# EAGLE library part AR1021-RESISTIVE_TOUCH_CONTROLLER (library Custom)
AR1021 - Resistive Touch Controller
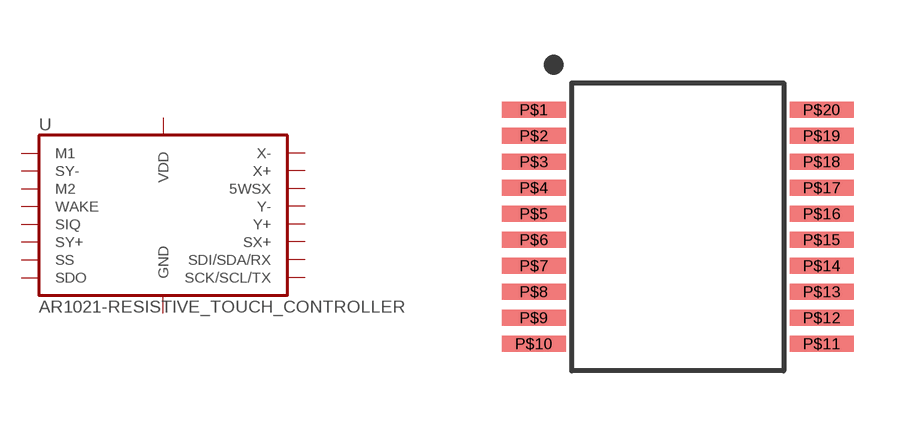
[diagram p12: symbol with the pads of SSOP-20; footprint SSOP-20]

Designator prefix U

## AR1021-RESISTIVE_TOUCH_CONTROLLER  [SSOP-20]
P$1  VDD  pwr
P$2  M1
P$3  SY-  in
P$4  M2  in
P$5  WAKE  in
P$6  SIQ
P$7  SY+
P$8  SS
P$9  SDO
P$11  SCK/SCL/TX
P$13  SDI/SDA/RX
P$14  SX+
P$15  Y+
P$16  Y-
P$17  5WSX
P$18  X+
P$19  X-
P$20  GND  pwr

## Footprint SSOP-20 (pad centres in mm)
smd 1.6 x 0.4: P$1 -3.6,2.925; P$2 -3.6,2.275; P$3 -3.6,1.625; P$4 -3.6,0.975; P$5 -3.6,0.325; P$6 -3.6,-0.325; P$7 -3.6,-0.975; P$8 -3.6,-1.625; P$9 -3.6,-2.275; P$10 -3.6,-2.925; P$11 3.6,-2.925; P$12 3.6,-2.275; P$13 3.6,-1.625; P$14 3.6,-0.975; P$15 3.6,-0.325; P$16 3.6,0.325; P$17 3.6,0.975; P$18 3.6,1.625; P$19 3.6,2.275; P$20 3.6,2.925